# EAGLE library part MOUDLE-BLUETOOTH-AUDIO-BC127(51P-18X11.8MM) (library Seeed-OPL-Moudle)
317990034
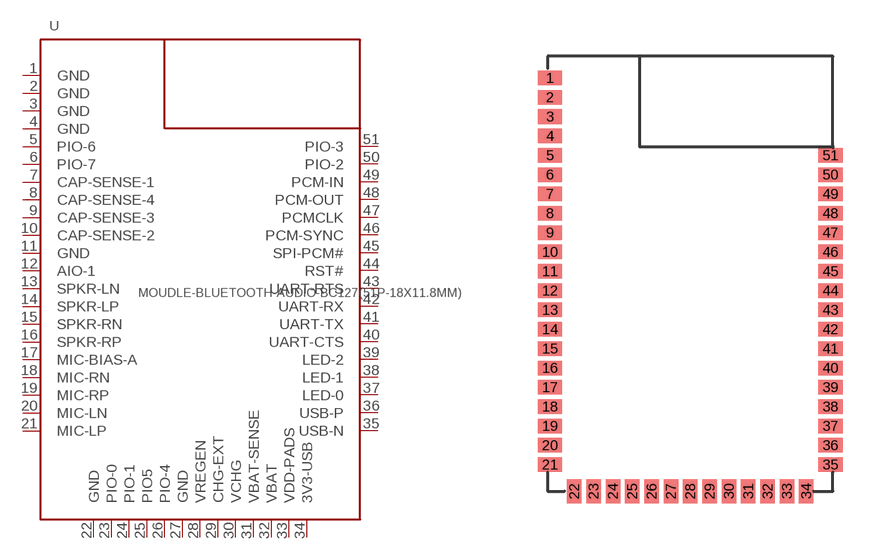
[diagram p7: symbol with the pads of LGA51-0.8-18X11.8MM; footprint LGA51-0.8-18X11.8MM]

Designator prefix U

## MOUDLE-BLUETOOTH-AUDIO-BC127(51P-18X11.8MM) (MPN: BC127; VALUE: 51P 18X11.8MM)  [LGA51-0.8-18X11.8MM]
1  GND
2  GND
3  GND
4  GND
5  PIO-6
6  PIO-7
7  CAP-SENSE-1
8  CAP-SENSE-4
9  CAP-SENSE-3
10  CAP-SENSE-2
11  GND
12  AIO-1
13  SPKR-LN
14  SPKR-LP
15  SPKR-RN
16  SPKR-RP
17  MIC-BIAS-A
18  MIC-RN
19  MIC-RP
20  MIC-LN
21  MIC-LP
22  GND
23  PIO-0
24  PIO-1
25  PIO5
26  PIO-4
27  GND
28  VREGEN
29  CHG-EXT
30  VCHG
31  VBAT-SENSE
32  VBAT
33  VDD-PADS
34  3V3-USB
35  USB-N
36  USB-P
37  LED-0
38  LED-1
39  LED-2
40  UART-CTS
41  UART-TX
42  UART-RX
43  UART-RTS
44  RST#
45  SPI-PCM#
46  PCM-SYNC
47  PCMCLK
48  PCM-OUT
49  PCM-IN
50  PIO-2
51  PIO-3

## Footprint LGA51-0.8-18X11.8MM (pad centres in mm)
smd 1 x 0.6: 1 -5.8,8.1; 2 -5.8,7.3; 3 -5.8,6.5; 4 -5.8,5.7; 5 -5.8,4.9; 6 -5.8,4.1; 7 -5.8,3.3; 8 -5.8,2.5; 9 -5.8,1.7; 10 -5.8,0.9; 11 -5.8,0.1; 12 -5.8,-0.7; 13 -5.8,-1.5; 14 -5.8,-2.3; 15 -5.8,-3.1; 16 -5.8,-3.9; 17 -5.8,-4.7; 18 -5.8,-5.5; 19 -5.8,-6.3; 20 -5.8,-7.1; 21 -5.8,-7.9; 35 5.8,-7.9; 36 5.8,-7.1; 37 5.8,-6.3; 38 5.8,-5.5; 39 5.8,-4.7; 40 5.8,-3.9; 41 5.8,-3.1; 42 5.8,-2.3; 43 5.8,-1.5; 44 5.8,-0.7; 45 5.8,0.1; 46 5.8,0.9; 47 5.8,1.7; 48 5.8,2.5; 49 5.8,3.3; 50 5.8,4.1; 51 5.8,4.9
smd 0.6 x 1: 22 -4.8,-9; 23 -4,-9; 24 -3.2,-9; 25 -2.4,-9; 26 -1.6,-9; 27 -0.8,-9; 28 0,-9; 29 0.8,-9; 30 1.6,-9; 31 2.4,-9; 32 3.2,-9; 33 4,-9; 34 4.8,-9